# Altium integrated library Resistor_SMD.IntLib: 3 symbols
Pins are listed as number, name and electrical type; pins without a type are passive.

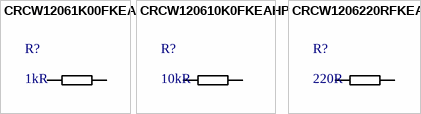
[diagram p0: symbols CRCW12061K00FKEA to CRCW1206220RFKEAC]

## CRCW12061K00FKEA
designator R?, comment 1kR
Res Thick Film 1206 1K Ohm 1% 1/4W ±100ppm/°C Molded SMD SMD Paper T/R; Manufacturer 1: Vishay; Manufacturer Part Number 1: CRCW12061K00FKEA; Category 1: Chip SMD Resistors; Power Rating: 250mW; Voltage Rating: 200V; Supplier 1: Mouser; Supplier Part Number 1: 71-CRCW1206-1.0K-E3; RoHS 1: Yes; Description 1: Res Thick Film 1206 1K Ohm 1% 1/4W ±100ppm/°C Molded SMD SMD Paper T/R; Stock 1: 445; Pricing 1: 1=0.11000, 10=0.08400, 50=0.08400, 100=0.03300, 1000=0.01500, 2500=0.01300, 5000=0.01100, 10000=0.01100 (USD); Mount: Surface Mount; Case/Package: 1206; Number of Pins: 2; Contact Plating: Tin; Weight: 0.000353oz; Case Code (Metric): 3216; Case Code (Imperial): 1206; Size Code: 1206; Min Operating Temperature: -55°C; Max Operating Temperature: 155°C; Tolerance: 1%; Resistor Type: Thick Film; Resistance: 1kR; Temperature Coefficient: 100ppm/°C; Termination: SMD/SMT; Packaging: Tape and Reel; Package Quantity: 10; Number of Terminations: 2; Max Power Dissipation: 250mW; Voltage Rating (DC): 200V; Features: Automotive AEC-Q200; Series: CRCW; Technology: THICK FILM; Construction: Rectangular; Resistance Tolerance: 1%; Length: 3.2mm; Width: 0.063inch; Height: 0.55mm; Depth: 1.6mm; Radiation Hardening: No; Lead Free: Lead Free; RoHS Compliant: Yes; Military Standard: Not; ComponentLink1URL: https://datasheet.ciiva.com/11809/0900766b80d98b5e-11809896.pdf?src-supplier=RSComponents; ComponentLink1Description: https://datasheet.ciiva.com/11809/0900766b80d98b5e-11809896.pdf?src-supplier=RSComponents; ComponentLink2URL: https://datasheet.ciiva.com/9109/dcrcwe3-9109926.pdf?src-supplier=Avnet; ComponentLink2Description: https://datasheet.ciiva.com/9109/dcrcwe3-9109926.pdf?src-supplier=Avnet; ComponentLink3URL: https://datasheet.ciiva.com/6541/dcrcwe3-6541976.pdf?src-supplier=Digi-Key; ComponentLink3Description: https://datasheet.ciiva.com/6541/dcrcwe3-6541976.pdf?src-supplier=Digi-Key; ComponentLink4URL: https://datasheet.ciiva.com/6541/dcrcwe3-6541977.pdf?src-supplier=Digi-Key; ComponentLink4Description: https://datasheet.ciiva.com/6541/dcrcwe3-6541977.pdf?src-supplier=Digi-Key; ComponentLink5URL: https://datasheet.ciiva.com/5549/dcrcwe3-109170-5549546.pdf?src-supplier=Mouser; ComponentLink5Description: https://datasheet.ciiva.com/5549/dcrcwe3-109170-5549546.pdf?src-supplier=Mouser; ComponentLink6URL: https://datasheet.ciiva.com/6541/dcrcwe3-6541978.pdf?src-supplier=Digi-Key; ComponentLink6Description: https://datasheet.ciiva.com/6541/dcrcwe3-6541978.pdf?src-supplier=Digi-Key; ComponentLink7URL: https://datasheet.ciiva.com/46441/1720486-46441629.pdf?src-supplier=Element14; ComponentLink7Description: https://datasheet.ciiva.com/46441/1720486-46441629.pdf?src-supplier=Element14; ComponentLink8URL: https://datasheet.ciiva.com/46441/1720486-46441630.pdf?src-supplier=Element14; ComponentLink8Description: https://datasheet.ciiva.com/46441/1720486-46441630.pdf?src-supplier=Element14; Value: 1kR
footprint Vishay-CRCW1206-IPC-A (Resistor SMD 1206 (3216 Metric))
footprint Vishay-CRCW1206-IPC-B (Resistor SMD 1206 (3216 Metric))
footprint Vishay-CRCW1206-IPC-C (Resistor SMD 1206 (3216 Metric))
pins: 1, 2

## CRCW120610K0FKEAHP
designator R?, comment 10kR
Res Thick Film 1206 10K Ohm 1% 0.75W(3/4W) ±100ppm/°C Pad SMD Automotive T/R; Manufacturer 1: Vishay; Manufacturer Part Number 1: CRCW120610K0FKEAHP; Category 1: Chip SMD Resistors; Power Rating: 500mW; Voltage Rating: 200V; Supplier 1: Digi-Key; Supplier Part Number 1: 541-10.0KUCT-ND; RoHS 1: Yes; Description 1: Res Thick Film 1206 10K Ohm 1% 0.75W(3/4W) ±100ppm/°C Pad SMD Automotive T/R; Stock 1: 4; Pricing 1: 1=0.46000, 10=0.32900, 100=0.13170, 1000=0.06491, 2500=0.06013 (USD); Mount: Surface Mount; Case/Package: 1206; Weight: 0.000353oz; Case Code (Metric): 3216; Case Code (Imperial): 1206; Contact Plating: Tin; Min Operating Temperature: -55°C; Max Operating Temperature: 155°C; Package Quantity: 10; Resistance: 10kR; Tolerance: 1%; Packaging: Tape and Reel; Resistor Type: Thick Film; Number of Terminations: 2; Termination: SMD/SMT; Max Power Dissipation: 500mW; Temperature Coefficient: 100ppm/°C; Voltage Rating (DC): 200V; Features: Automotive AEC-Q200; Series: CRCW-HP; Resistance Tolerance: 1%; Technology: THICK FILM; Construction: Rectangular; Length: 0.122inch; Width: 0.063inch; Height: 0.5mm; Depth: 1.6mm; Radiation Hardening: No; Military Standard: Not; Lead Free: Lead Free; RoHS Compliant: Yes; ComponentLink1URL: https://datasheet.ciiva.com/7694/1678154-7694954.pdf?src-supplier=Element14; ComponentLink1Description: https://datasheet.ciiva.com/7694/1678154-7694954.pdf?src-supplier=Element14; ComponentLink2URL: https://datasheet.ciiva.com/2480/crcwhpe3-2480512.pdf?src-supplier=Digi-Key; ComponentLink2Description: https://datasheet.ciiva.com/2480/crcwhpe3-2480512.pdf?src-supplier=Digi-Key; ComponentLink3URL: https://datasheet.ciiva.com/46391/1885357-46391643.pdf?src-supplier=Element14; ComponentLink3Description: https://datasheet.ciiva.com/46391/1885357-46391643.pdf?src-supplier=Element14; ComponentLink4URL: https://datasheet.ciiva.com/9052/crcwhpe3-9052621.pdf?src-supplier=Avnet; ComponentLink4Description: https://datasheet.ciiva.com/9052/crcwhpe3-9052621.pdf?src-supplier=Avnet; ComponentLink5URL: https://datasheet.ciiva.com/28588/1912814-28588909.pdf?src-supplier=Element14; ComponentLink5Description: https://datasheet.ciiva.com/28588/1912814-28588909.pdf?src-supplier=Element14; ComponentLink6URL: https://datasheet.ciiva.com/2480/crcwhpe3-2480510.pdf?src-supplier=Digi-Key; ComponentLink6Description: https://datasheet.ciiva.com/2480/crcwhpe3-2480510.pdf?src-supplier=Digi-Key; ComponentLink7URL: https://datasheet.ciiva.com/2480/crcwhpe3-2480511.pdf?src-supplier=Digi-Key; ComponentLink7Description: https://datasheet.ciiva.com/2480/crcwhpe3-2480511.pdf?src-supplier=Digi-Key; ComponentLink8URL: https://datasheet.ciiva.com/5542/crcwhpe3-46056-5542975.pdf?src-supplier=Mouser; ComponentLink8Description: https://datasheet.ciiva.com/5542/crcwhpe3-46056-5542975.pdf?src-supplier=Mouser; Supplier 2: Digi-Key; Supplier Part Number 2: 541-10.0KUDKR-ND; Supplier 3: Mouser; Supplier Part Number 3: 71-CRCW120610K0FKEAH; Value: 10kR
footprint Vishay-CRCW1206-IPC-A (Resistor SMD 1206 (3216 Metric))
footprint Vishay-CRCW1206-IPC-B (Resistor SMD 1206 (3216 Metric))
footprint Vishay-CRCW1206-IPC-C (Resistor SMD 1206 (3216 Metric))
pins: 1, 2

## CRCW1206220RFKEAC
designator R?, comment 220R
Res Thick Film 1206 220 Ohm 1% 0.25W(1/4W) ±100ppm/C Pad SMD T/R; Manufacturer 1: Vishay Dale; Manufacturer Part Number 1: CRCW1206220RFKEAC; Category 1: Chip SMD Resistors; Max Power Dissipation: 250mW; Temperature Coefficient: 100ppm/°C; Supplier 1: Digi-Key; Supplier Part Number 1: 541-4190-1-ND; RoHS 1: Yes; Description 1: Res Thick Film 1206 220 Ohm 1% 0.25W(1/4W) ±100ppm/C Pad SMD T/R; Stock 1: 88807; Pricing 1: 1=0.10000, 10=0.07600, 100=0.02930, 1000=0.01290, 2500=0.01114 (USD); Case/Package: 1206; Case Code (Imperial): 1206; Case Code (Metric): 3216; Min Operating Temperature: -55°C; Max Operating Temperature: 155°C; Resistor Type: Thick Film; Packaging: Cut Tape; Resistance: 220R; Tolerance: 1%; Number of Terminations: 2; RoHS Compliant: Yes; ComponentLink1URL: http://www.vishay.com/docs/28773/crcwce3.pdf?src-supplier=Digi-Key; ComponentLink1Description: http://www.vishay.com/docs/28773/crcwce3.pdf?src-supplier=Digi-Key; Supplier 2: Digi-Key; Supplier Part Number 2: 541-4190-6-ND; Manufacturer 2: Vishay Dale; Manufacturer Part Number 2: CRCW1206220RFKEAC; RoHS 2: Yes; Description 2: Res Thick Film 1206 220 Ohm 1% 0.25W(1/4W) ±100ppm/C Pad SMD T/R; Category 2: Chip SMD Resistors; Stock 2: 88807; Pricing 2: 1=0.10000, 10=0.07600, 100=0.02930, 1000=0.01290, 2500=0.01114 (USD); Supplier 3: Digi-Key; Supplier Part Number 3: 541-4190-2-ND; Manufacturer 3: Vishay Dale; Manufacturer Part Number 3: CRCW1206220RFKEAC; RoHS 3: Yes; Description 3: Res Thick Film 1206 220 Ohm 1% 0.25W(1/4W) ±100ppm/C Pad SMD T/R; Category 3: Chip SMD Resistors; Stock 3: 86990; Pricing 3: 5000=0.00997, 10000=0.00894, 25000=0.00821, 50000=0.00771, 125000=0.00754 (USD); Supplier 4: Mouser; Supplier Part Number 4: 71-CRCW1206220RFKEAC; Manufacturer 4: Vishay Dale; Manufacturer Part Number 4: CRCW1206220RFKEAC; RoHS 4: Yes; Description 4: Res Thick Film 1206 220 Ohm 1% 0.25W(1/4W) ±100ppm/C Pad SMD T/R; Category 4: Chip SMD Resistors; Stock 4: 53646; Pricing 4: 1=0.10000, 10=0.08000, 50=0.08000, 100=0.03200, 1000=0.01300, 5000=0.01100, 10000=0.01100 (USD); Value: 220R
footprint Vishay-CRCW1206-IPC-A (Resistor SMD 1206 (3216 Metric))
footprint Vishay-CRCW1206-IPC-B (Resistor SMD 1206 (3216 Metric))
footprint Vishay-CRCW1206-IPC-C (Resistor SMD 1206 (3216 Metric))
pins: 1, 2